# EAGLE library part MAX253 (library 1A-meinLib)
Tansformer Driver for Isolated RS-485 Interfaces, 5V, 1W, MAXIM
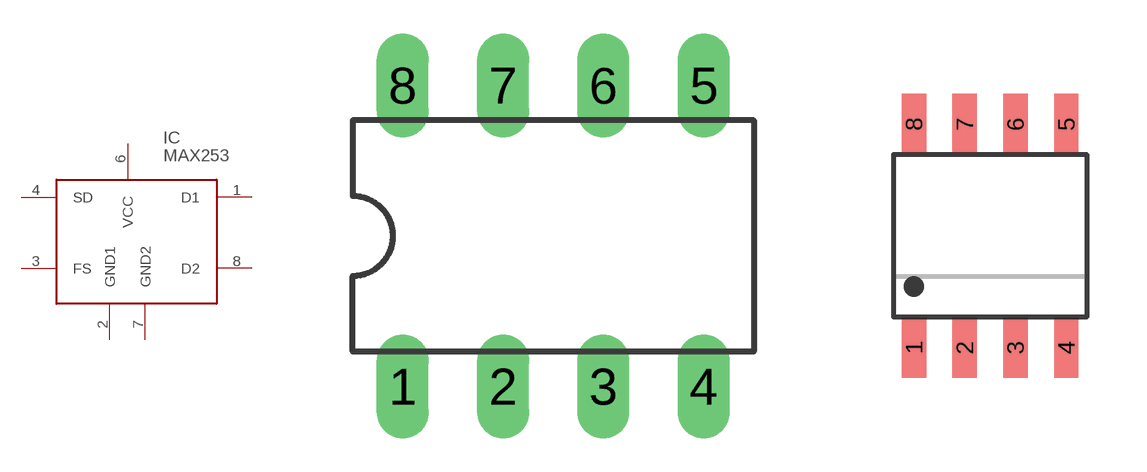
[diagram p371: symbol with the pads of DIL08; footprints DIL08, SOIC-8]

Designator prefix IC

## MAX253  [DIL08]
1  D1  out
2  GND1  pas
3  FS  in
4  SD  in
6  VCC  pas
7  GND2  pas
8  D2  out

## MAX253S  [SOIC-8]
Pads as for DIL08

## Footprint DIL08 (pad centres in mm)
Dual In Line Package
drill 0.813 long: 1 -3.81,-3.81; 2 -1.27,-3.81; 3 1.27,-3.81; 4 3.81,-3.81; 5 3.81,3.81; 6 1.27,3.81; 7 -1.27,3.81; 8 -3.81,3.81

## Footprint SOIC-8 (pad centres in mm)
smd 0.61 x 1.524: 1 -1.27,-2.794; 2 0,-2.794; 3 1.27,-2.794; 4 2.54,-2.794; 5 2.54,2.794; 6 1.27,2.794; 7 0,2.794; 8 -1.27,2.794